# EAGLE library part FTDI_MODULE (library ttag)
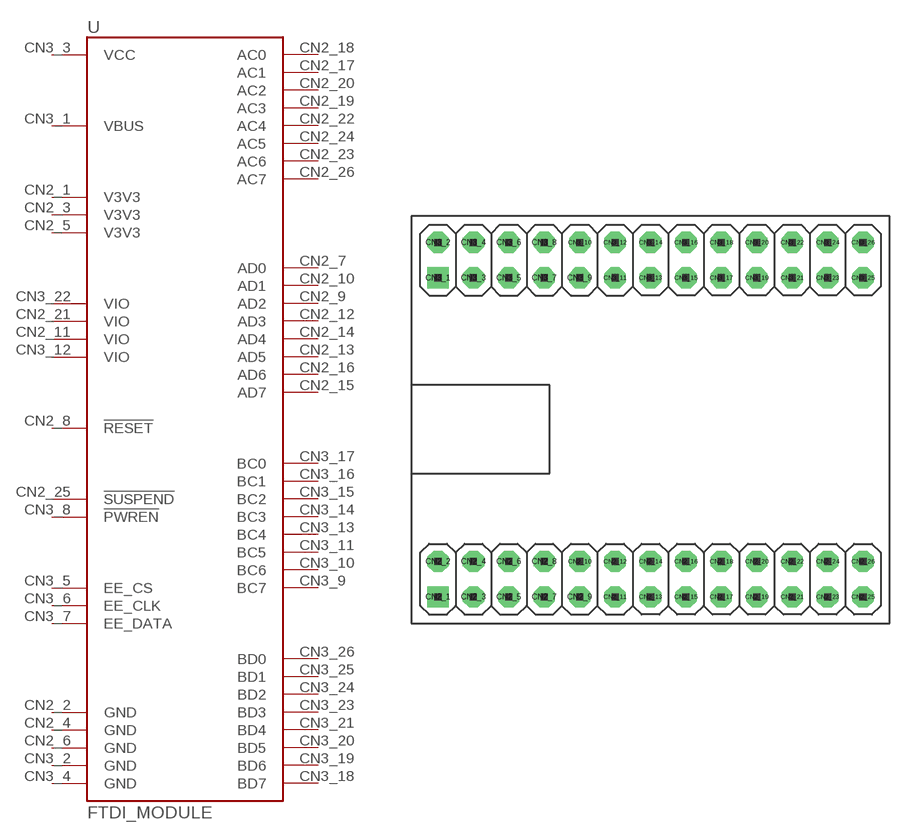
[diagram p1: symbol with the pads of FTDI_MODULE; footprint FTDI_MODULE]

Designator prefix -

## FTDI_MODULE  [FTDI_MODULE]
CN2_1  V3V3
CN2_2  GND
CN2_3  V3V3
CN2_4  GND
CN2_5  V3V3
CN2_6  GND
CN2_7  AD0
CN2_8  !RESET!
CN2_9  AD2
CN2_10  AD1
CN2_11  VIO
CN2_12  AD3
CN2_13  AD5
CN2_14  AD4
CN2_15  AD7
CN2_16  AD6
CN2_17  AC1
CN2_18  AC0
CN2_19  AC3
CN2_20  AC2
CN2_21  VIO
CN2_22  AC4
CN2_23  AC6
CN2_24  AC5
CN2_25  !SUSPEND!
CN2_26  AC7
CN3_1  VBUS
CN3_2  GND
CN3_3  VCC
CN3_4  GND
CN3_5  EE_CS
CN3_6  EE_CLK
CN3_7  EE_DATA
CN3_8  !PWREN!
CN3_9  BC7
CN3_10  BC6
CN3_11  BC5
CN3_12  VIO
CN3_13  BC4
CN3_14  BC3
CN3_15  BC2
CN3_16  BC1
CN3_17  BC0
CN3_18  BD7
CN3_19  BD6
CN3_20  BD5
CN3_21  BD4
CN3_22  VIO
CN3_23  BD3
CN3_24  BD2
CN3_25  BD1
CN3_26  BD0

## Footprint FTDI_MODULE (pad centres in mm)
drill 1.016 square: CN2_1 -14,-12.54; CN3_1 -14,10.35
drill 1.016 octagon: CN2_2 -14,-10; CN2_3 -11.46,-12.54; CN2_4 -11.46,-10; CN2_5 -8.92,-12.54; CN2_6 -8.92,-10; CN2_7 -6.38,-12.54; CN2_8 -6.38,-10; CN2_9 -3.84,-12.54; CN2_10 -3.84,-10; CN2_11 -1.3,-12.54; CN2_12 -1.3,-10; CN2_13 1.24,-12.54; CN2_14 1.24,-10; CN2_15 3.78,-12.54; CN2_16 3.78,-10; CN2_17 6.32,-12.54; CN2_18 6.32,-10; CN2_19 8.86,-12.54; CN2_20 8.86,-10; CN2_21 11.4,-12.54; CN2_22 11.4,-10; CN2_23 13.94,-12.54; CN2_24 13.94,-10; CN2_25 16.48,-12.54; CN2_26 16.48,-10; CN3_2 -14,12.89; CN3_3 -11.46,10.35; CN3_4 -11.46,12.89; CN3_5 -8.92,10.35; CN3_6 -8.92,12.89; CN3_7 -6.38,10.35; CN3_8 -6.38,12.89; CN3_9 -3.84,10.35; CN3_10 -3.84,12.89; CN3_11 -1.3,10.35; CN3_12 -1.3,12.89; CN3_13 1.24,10.35; CN3_14 1.24,12.89; CN3_15 3.78,10.35; CN3_16 3.78,12.89; CN3_17 6.32,10.35; CN3_18 6.32,12.89; CN3_19 8.86,10.35; CN3_20 8.86,12.89; CN3_21 11.4,10.35; CN3_22 11.4,12.89; CN3_23 13.94,10.35; CN3_24 13.94,12.89; CN3_25 16.48,10.35; CN3_26 16.48,12.89